# Altium schematic symbol library JS102011CQN.SchLib: 1 symbol
Pins are listed as number, name and electrical type; pins without a type are passive.

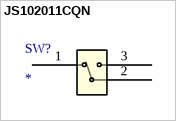
[diagram p0: symbol JS102011CQN]

## JS102011CQN
designator SW?
No Description Available; Mfr_Name: C&K Components; Type: Slide Switches; RefDes: RefDes
footprint JS102011CQN_CNK
pins: 1, 2, 3